# Altium footprint library 0805D.PcbLib: 1 footprints
Each footprint in its own frame and in the unit in brackets; x right, y up, seen from the top. Pads: shape width x height; smd on the part's side, far side on the other; paste and mask are expansions set on the pad; w line width, h text height; cw(c..) or ccw(c..) is an arc to the next point about the centre after c.
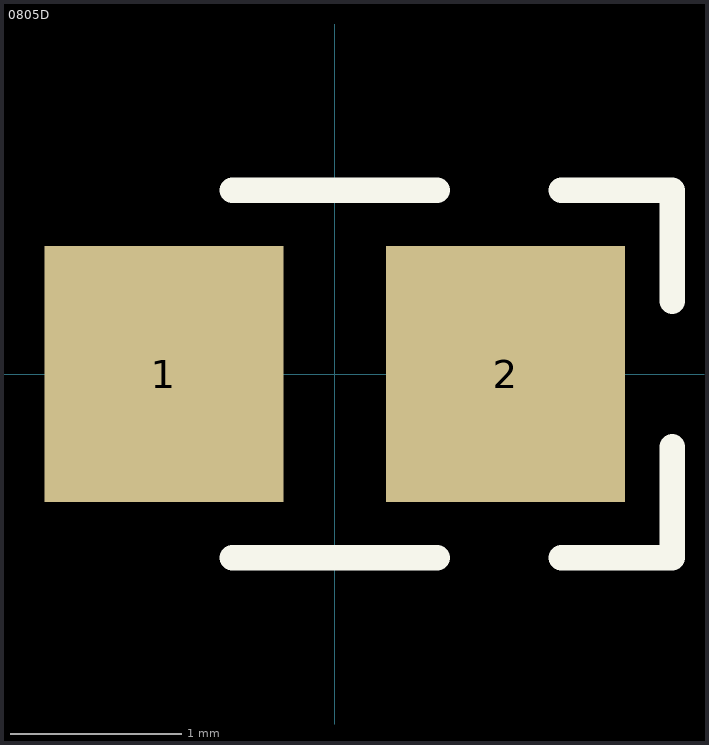
[diagram p0: the footprint, top view; thin cyan lines are the x and y axes]

## 0805D [mm]
pads (2):
  rect 1.4x1.5 smd: 1(-1,0) 2(1,0)
Top Overlay:
  lines w0.15: -0.6,-1.075 0.6,-1.075 ; -0.6,1.075 0.6,1.075 ; 1.325,-1.075 1.975,-1.075 1.975,-0.425 ; 1.325,1.075 1.975,1.075 1.975,0.425
3D body: height 0.7, standoff 0, extent -1.075,-0.7 1.075,0.7